# EAGLE library part TC4427-FET-GATE-DRVR (library GROUND-STATION-POWER-BOARD)
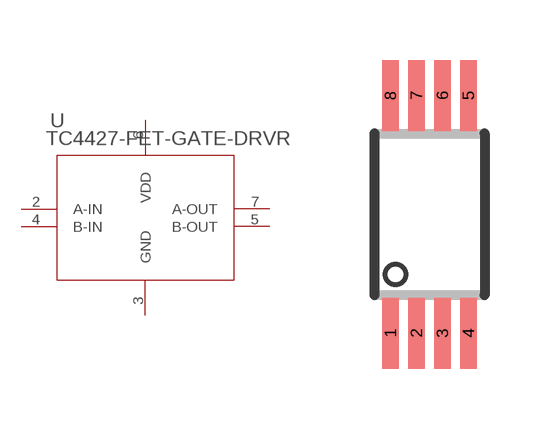
[diagram p7: symbol with the pads of TSSOP-8; footprint TSSOP-8]

Designator prefix -

## TC4427-FET-GATE-DRVR  [TSSOP-8]
2  A-IN  pas
3  GND  pas
4  B-IN  pas
5  B-OUT  pas
6  VDD  pas
7  A-OUT  pas

## Footprint TSSOP-8 (pad centres in mm)
8-Pin TSSOP Source: www.xicor.com .. x1205.pdf
smd 0.42 x 1.78: 1 -0.975,-2.975; 2 -0.325,-2.975; 3 0.325,-2.975; 4 0.975,-2.975; 5 0.975,2.975; 6 0.325,2.975; 7 -0.325,2.975; 8 -0.975,2.975